# EAGLE library part IC_TTL_DUAL_74_125 (library mylib_20130829)
IC_TTL_DUAL_74_125 : DUAL BUS BUFFER GATE w/ 3-State Outputs Packages : _DIP : 2.54 x 8 x 300mil _FLAT : 0.65 x 8 x 160mil
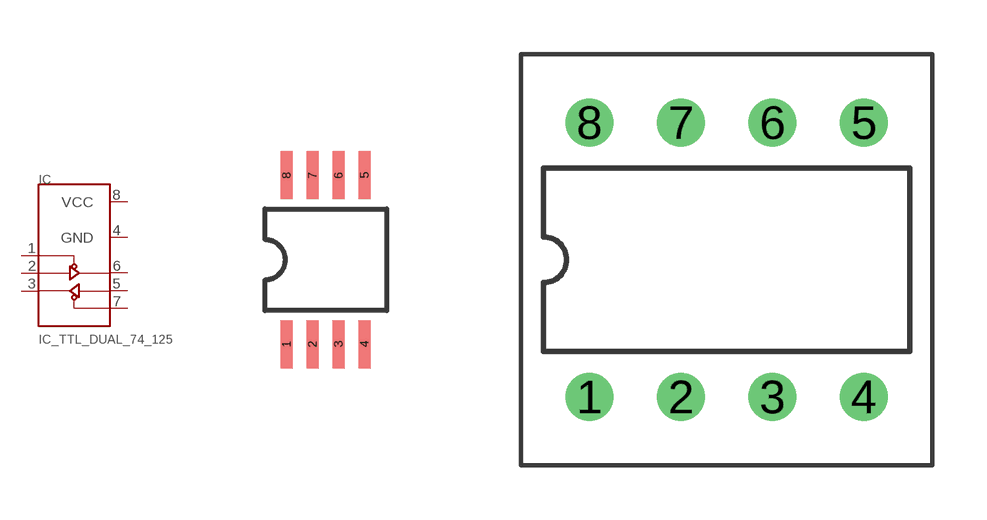
[diagram p71: symbol with the pads of IC_08_0.65_160MIL; footprints IC_08_0.65_160MIL, BOARD_HENKAN_DIP08]

Designator prefix IC

## IC_TTL_DUAL_74_125_FLAT  [IC_08_0.65_160MIL]
1  !OE1!  in
2  A1  in
3  Y2  out
4  GND  pwr
5  A2  in
6  Y1  out
7  !OE2!  in
8  VCC  pwr

## IC_TTL_DUAL_74_125_HENKAN  [BOARD_HENKAN_DIP08]
Pads as for IC_08_0.65_160MIL

## Footprint IC_08_0.65_160MIL (pad centres in mm)
Mini Small Outline Package
smd 0.3 x 1.2: 1 -0.976,-2.113; 2 -0.326,-2.113; 3 0.324,-2.113; 4 0.974,-2.113; 5 0.974,2.112; 6 0.324,2.112; 7 -0.326,2.112; 8 -0.976,2.112

## Footprint BOARD_HENKAN_DIP08 (pad centres in mm)
drill 0.813: 1 -3.81,-3.81; 2 -1.27,-3.81; 3 1.27,-3.81; 4 3.81,-3.81; 5 3.81,3.81; 6 1.27,3.81; 7 -1.27,3.81; 8 -3.81,3.81